# Altium footprint library CONN_IDC_12_PIN2.54.PcbLib: 1 footprints
Each footprint in its own frame and in the unit in brackets; x right, y up, seen from the top. Pads: shape width x height; smd on the part's side, far side on the other; paste and mask are expansions set on the pad; w line width, h text height; cw(c..) or ccw(c..) is an arc to the next point about the centre after c.
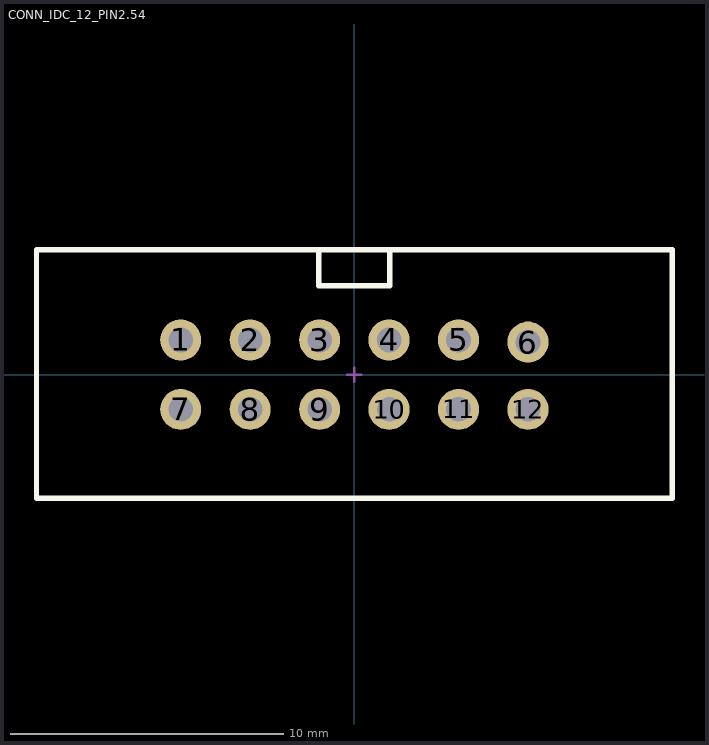
[diagram p0: the footprint, top view; thin cyan lines are the x and y axes]

## CONN_IDC_12_PIN2.54 [mm]
height 0.55
pads (12):
  round 1.5 hole 0.9: 1(-6.35,1.27) 2(-3.81,1.27) 3(-1.27,1.27) 4(1.27,1.27) 5(3.81,1.27) 6(6.35,1.193) 7(-6.35,-1.27) 8(-3.81,-1.27) 9(-1.27,-1.27) 10(1.27,-1.27) 11(3.81,-1.27) 12(6.35,-1.27)
Top Overlay:
  lines w0.2: -1.3,4.55 -1.3,3.25 1.3,3.25 1.3,4.525 ; -11.625,-4.525 -11.625,4.575 11.625,4.575 11.625,-4.525 -11.625,-4.525
Top Assembly:
  lines w0.1: -0.25,0 0.25,0 ; 0,-0.25 0,0.25 ; -11.65,-4.525 -11.65,4.575 11.625,4.575 11.625,-4.525 -11.65,-4.525
  text "'.Designator'" at 0,0 h0.7
3D body "User Library-DS1013-12S (IDC-12MS CONNFLY).STEP": height 9.2, standoff -3.4, extent -11.52,-4.425 11.52,4.475